# Altium schematic symbol library SPDT.A1.SchLib: 1 symbol
Pins are listed as number, name and electrical type; pins without a type are passive.

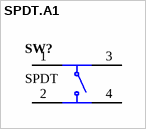
[diagram p0: symbol SPDT.A1]

## SPDT.A1
designator SW?, comment SPDT
pins: 1, 2, 3, 4